# EAGLE library part COPROCINTERFACE (library PNP)
Jumpers from board to ECU connector
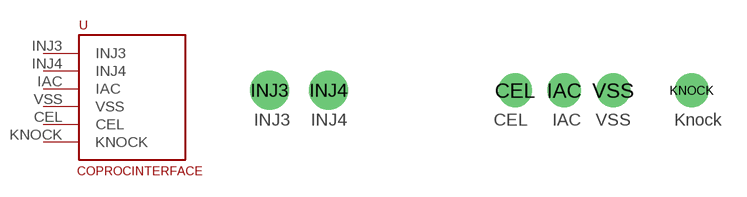
[diagram p12: symbol with the pads of COPROCHEAD; footprint COPROCHEAD]

Designator prefix -

## COPROCINTERFACE  [COPROCHEAD]
CEL  CEL
IAC  IAC
INJ3  INJ3
INJ4  INJ4
KNOCK  KNOCK
VSS  VSS

## Footprint COPROCHEAD (pad centres in mm)
drill 1.3 pad 2.184: CEL 8.89,0; IAC 12.065,0; KNOCK 20.32,0; VSS 15.24,0
drill 1.3 pad 2.54: INJ3 -6.985,0; INJ4 -3.175,0